# EAGLE library part MOSFET-PCHANNEL-DUAL (library Skoba)
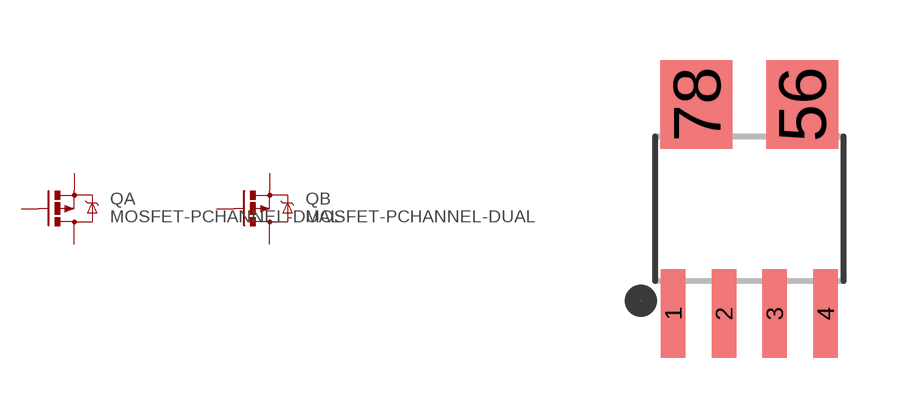
[diagram p34: symbol with the pads of SO08-JOINED-2; footprint SO08-JOINED-2]

Designator prefix Q; gates A=MOSFET-PCHANNEL B=MOSFET-PCHANNEL

## MOSFET-PCHANNEL-DUALSO08  [SO08-JOINED-2]
1  A:S  pas
2  A:G  pas
3  B:S  pas
4  B:G  pas
56  B:D  pas
78  A:D  pas

## Footprint SO08-JOINED-2 (pad centres in mm)
smd 0.61 x 2.21: 1 -1.905,-2.616; 2 -0.635,-2.616; 3 0.635,-2.616; 4 1.905,-2.616
smd 1.8 x 2.22: 56 1.32,2.61; 78 -1.32,2.61